# Altium integrated library WS-SLTU_rev15a.intlib: 1 symbol
Pins are listed as number, name and electrical type; pins without a type are passive.

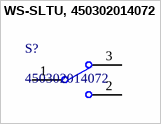
[diagram p0: symbol WS-SLTU, 450302014072]

## WS-SLTU, 450302014072
designator S?, comment 450302014072
WS-SLTU 10x2.5 mm THT right angled; Manufacturer: Wurth Elektronik; partNo: 450302014072; ComponentLink1Description: Manufacturer; ComponentLink1URL: http://www.we-online.de; Created by: Baojun Chen; Created Date: Dec.2015; ComponentLink2Description: Datasheet; ComponentLink2URL: http://katalog.we-online.de/em/datasheet/450302014072.pdf
footprint 450302014072 (10mm*2.5mm. SPDT, ON-ON, 2.54mm, right-angle type, THT, bulk)
pins: 1, 2, 3